# Altium footprint library KT-94.PcbLib: 1 footprints
Each footprint in its own frame and in the unit in brackets; x right, y up, seen from the top. Pads: shape width x height; smd on the part's side, far side on the other; paste and mask are expansions set on the pad; w line width, h text height; cw(c..) or ccw(c..) is an arc to the next point about the centre after c.
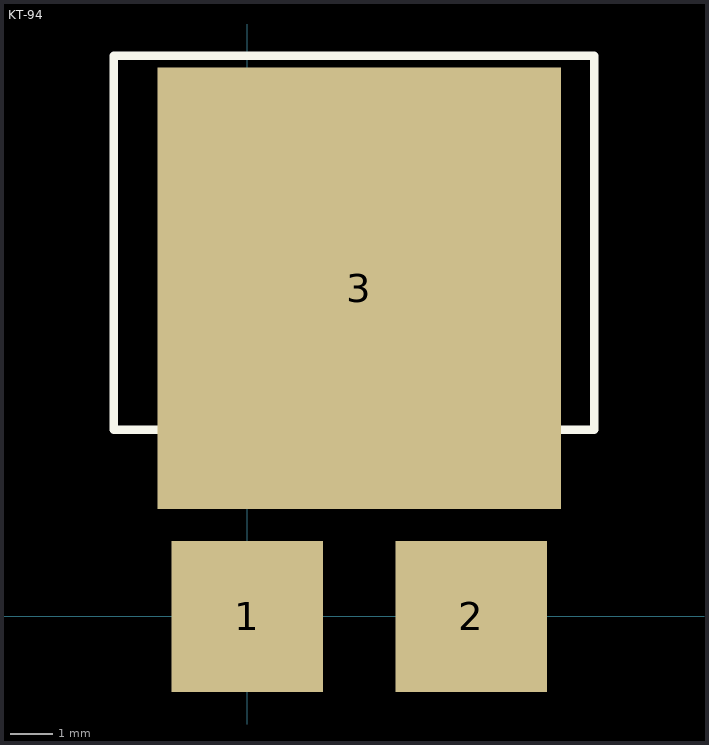
[diagram p0: the footprint, top view; thin cyan lines are the x and y axes]

## KT-94 [mm]
height 150
pads (3):
  rect 3.6x3.6 smd: 1(0,0) 2(5.33,0)
  rect 9.6x10.5 smd: 3(2.665,7.81)
Top Overlay:
  lines w0.2: -3.175,4.445 8.255,4.445 8.255,13.335 -3.175,13.335 -3.175,4.445
3D body "室-94.STEP": height 3.6, standoff 0, extent -3.25,-2.413 8.33,13.587